# Altium schematic symbol library Modules.SchLib: 19 symbols
Pins are listed as number, name and electrical type; pins without a type are passive.

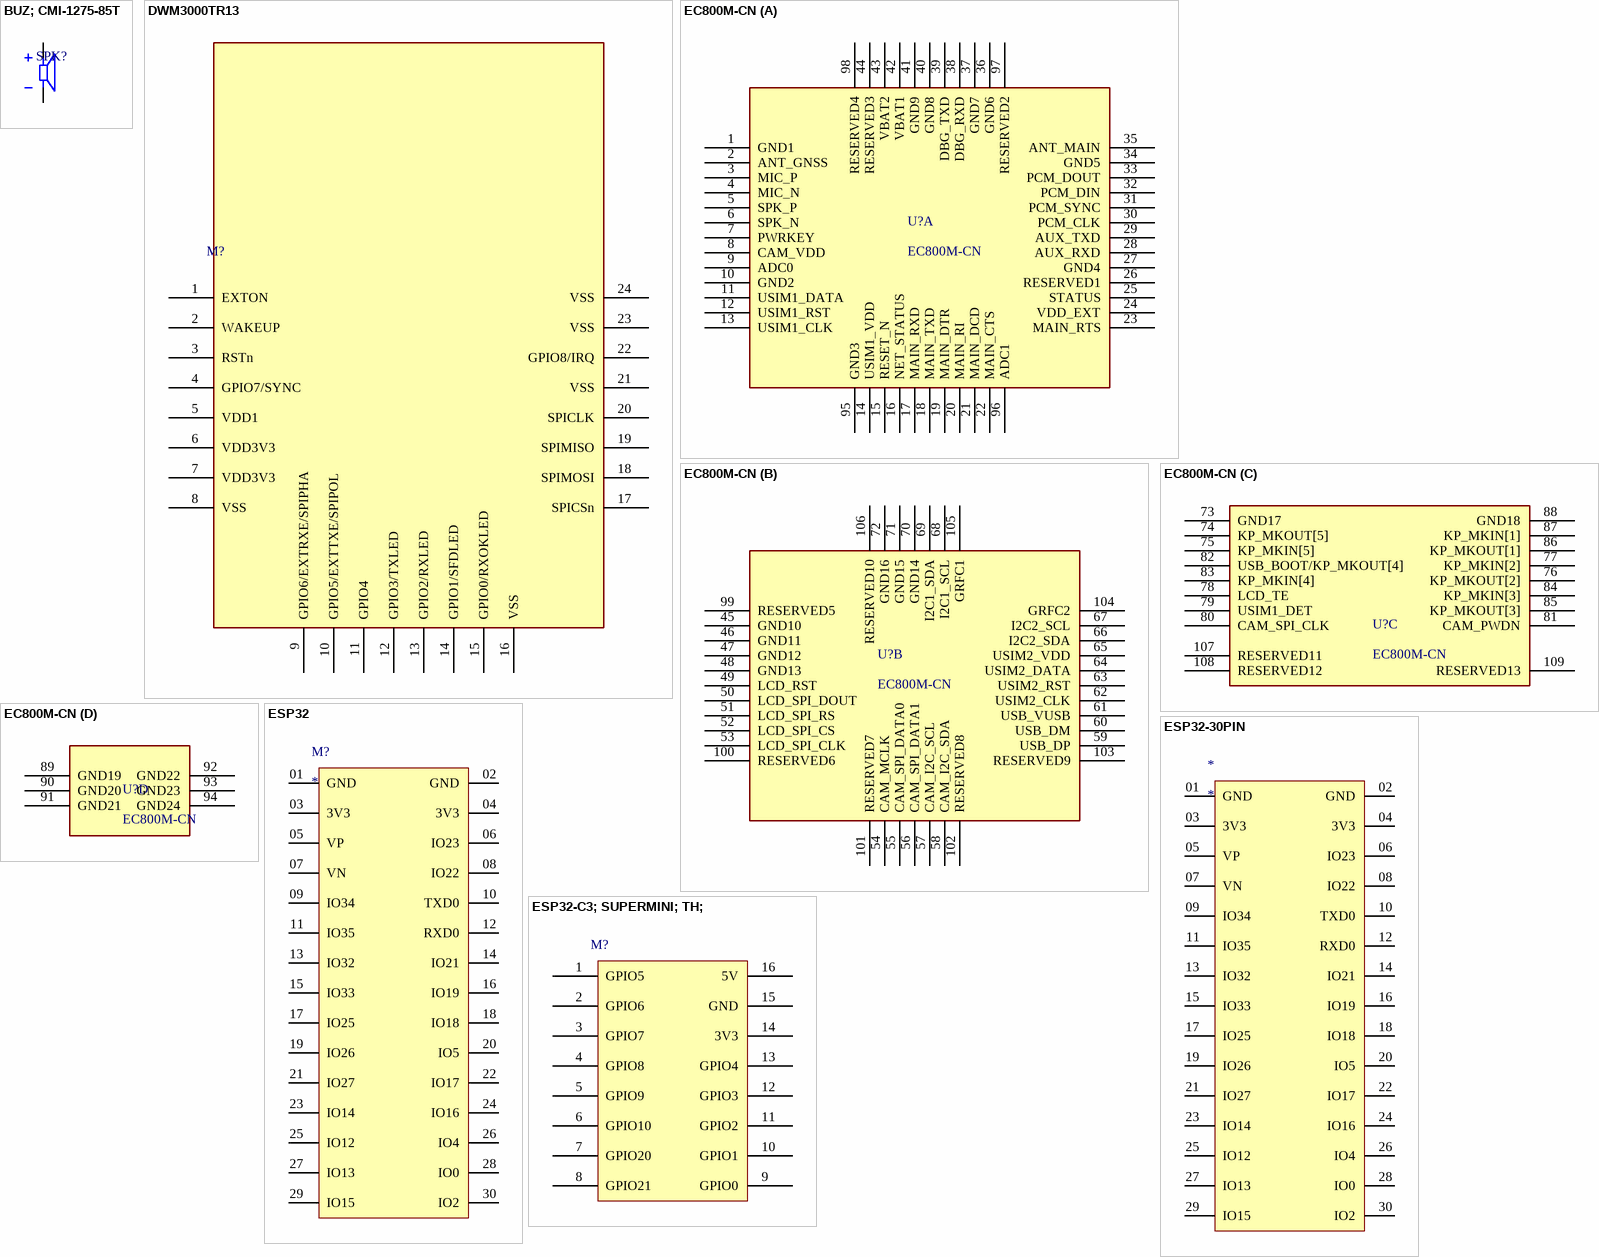
[diagram p0: symbols BUZ; CMI-1275-85T to ESP32-C3; SUPERMINI; TH;]

## BUZ; CMI-1275-85T
designator SPK?, comment Buzzers Indicator, Internally Driven Magnetic 5 V 30mA 3.1kHz 85dB @ 5V, 10cm Through Hole PC Pins  (value not drawn)
12 mm, 5 Vdc, 85 dB, Through Hole, Driving Circuit, Magnetic Audio Indicator Buzzer; Manufacturer: CUI Devices; Manufacturer Part Number: CMI-1275-85T; Shape: 4456Shape; Supplier: Mouser; Supplier Part Number: 490-CMI-1275-85T; RoHS: No; Category: Buzzers; Stock: 1318; Pricing: 1=1.23, 10=1.03, 50=0.984, 100=0.835, 1000=0.742, 10000=0.723 (USD); Length: 12mm; Width: 12mm; Height: 7.5mm
footprint MODULLE-BUZZER
pins: N, P

## DWM3000TR13
designator M?, comment 802.15.4, Bluetooth, Cellular UWB, Zigbee® Transceiver Module 6.25GHz ~ 8.25GHz Integrated, Ceramic Patch Surface Mount  (value not drawn)
RF Modules UWB XCVR Module; Manufacturer: Qorvo; Manufacturer Part Number: DWM3000TR13; Interface: SPI; Bandwidth: 1.4976GHz; Data Rate: 6.8Mbps; Clock Frequency: 7.9872GHz; Max Supply Voltage: 3.6V; Min Supply Voltage: 1.62V; Number of GPIO: 9; Supplier: Mouser; Supplier Part Number: 772-DWM3000TR13; RoHS: No; Category: RF Receivers, Transceivers; Stock: 8278; Pricing: 1=23.62, 10=23.62, 50=20.19, 100=17.18, 1000=12.71, 10000=12.71 (USD); Min Operating Temperature: -30°C; Max Operating Temperature: 85°C; Height: 2.9mm
footprint MODULE-DWM3000SR
pins: 1 EXTON, 2 WAKEUP, 3 RSTn, 4 GPIO7/SYNC, 5 VDD1, 6 VDD3V3, 7 VDD3V3, 8 VSS, 9 GPIO6/EXTRXE/SPIPHA, 10 GPIO5/EXTTXE/SPIPOL, 11 GPIO4, 12 GPIO3/TXLED, 13 GPIO2/RXLED, 14 GPIO1/SFDLED, 15 GPIO0/RXOKLED, 16 VSS, 17 SPICSn, 18 SPIMOSI, 19 SPIMISO, 20 SPICLK, 21 VSS, 22 GPIO8/IRQ, 23 VSS, 24 VSS

## EC800M-CN
designator U?
IoT/ M2M-optimized / LTE Cat 1 Module; Manufacturer: Quectel; Supply Voltage Range: 3.4~4.3 V，typ. 3.8 V; Interface Type: TCP/ UDP/ PPP/ NTP/ NITZ/ FTP/ HTTP/ PING/ CMUX*/ HTTPS/ FTPS/ SSL/ FILE/ MQTT/ MMS*/ SMTP*/; Manufacture Part Number: EC800M-CN; Link: https://www.quectel.com.cn/product/ec800m-cn; Package: LCC
footprint MODULE-ECM800-CN
part A pins: 1 GND1, 2 ANT_GNSS, 3 MIC_P, 4 MIC_N, 5 SPK_P, 6 SPK_N, 7 PWRKEY, 8 CAM_VDD, 9 ADC0, 10 GND2, 11 USIM1_DATA, 12 USIM1_RST, 13 USIM1_CLK, 14 USIM1_VDD, 15 RESET_N, 16 NET_STATUS, 17 MAIN_RXD, 18 MAIN_TXD, 19 MAIN_DTR, 20 MAIN_RI, 21 MAIN_DCD, 22 MAIN_CTS, 23 MAIN_RTS, 24 VDD_EXT, 25 STATUS, 26 RESERVED1, 27 GND4, 28 AUX_RXD, 29 AUX_TXD, 30 PCM_CLK, 31 PCM_SYNC, 32 PCM_DIN, 33 PCM_DOUT, 34 GND5, 35 ANT_MAIN, 36 GND6, 37 GND7, 38 DBG_RXD, 39 DBG_TXD, 40 GND8, 41 GND9, 42 VBAT1, 43 VBAT2, 44 RESERVED3, 95 GND3, 96 ADC1, 97 RESERVED2, 98 RESERVED4
part B pins: 45 GND10, 46 GND11, 47 GND12, 48 GND13, 49 LCD_RST, 50 LCD_SPI_DOUT, 51 LCD_SPI_RS, 52 LCD_SPI_CS, 53 LCD_SPI_CLK, 54 CAM_MCLK, 55 CAM_SPI_DATA0, 56 CAM_SPI_DATA1, 57 CAM_I2C_SCL, 58 CAM_I2C_SDA, 59 USB_DP, 60 USB_DM, 61 USB_VUSB, 62 USIM2_CLK, 63 USIM2_RST, 64 USIM2_DATA, 65 USIM2_VDD, 66 I2C2_SDA, 67 I2C2_SCL, 68 I2C1_SCL, 69 I2C1_SDA, 70 GND14, 71 GND15, 72 GND16, 99 RESERVED5, 100 RESERVED6, 101 RESERVED7, 102 RESERVED8, 103 RESERVED9, 104 GRFC2, 105 GRFC1, 106 RESERVED10
part C pins: 73 GND17, 74 KP_MKOUT[5], 75 KP_MKIN[5], 76 KP_MKOUT[2], 77 KP_MKIN[2], 78 LCD_TE, 79 USIM1_DET, 80 CAM_SPI_CLK, 81 CAM_PWDN, 82 USB_BOOT/KP_MKOUT[4], 83 KP_MKIN[4], 84 KP_MKIN[3], 85 KP_MKOUT[3], 86 KP_MKOUT[1], 87 KP_MKIN[1], 88 GND18, 107 RESERVED11, 108 RESERVED12, 109 RESERVED13
part D pins: 89 GND19, 90 GND20, 91 GND21, 92 GND22, 93 GND23, 94 GND24

## ESP32
designator M?
footprint MODULE-ESP
pins: 01 GND, 02 GND, 03 3V3, 04 3V3, 05 VP, 06 IO23, 07 VN, 08 IO22, 09 IO34, 10 TXD0, 11 IO35, 12 RXD0, 13 IO32, 14 IO21, 15 IO33, 16 IO19, 17 IO25, 18 IO18, 19 IO26, 20 IO5, 21 IO27, 22 IO17, 23 IO14, 24 IO16, 25 IO12, 26 IO4, 27 IO13, 28 IO0, 29 IO15, 30 IO2

## ESP32-30PIN
designator *
footprint MODULE-ESP32-30PIN
pins: 01 GND, 02 GND, 03 3V3, 04 3V3, 05 VP, 06 IO23, 07 VN, 08 IO22, 09 IO34, 10 TXD0, 11 IO35, 12 RXD0, 13 IO32, 14 IO21, 15 IO33, 16 IO19, 17 IO25, 18 IO18, 19 IO26, 20 IO5, 21 IO27, 22 IO17, 23 IO14, 24 IO16, 25 IO12, 26 IO4, 27 IO13, 28 IO0, 29 IO15, 30 IO2

## ESP32-C3; SUPERMINI; TH;
designator M?  (value not drawn)
Super tiny ESP32-C3 board; MF: Espressif Systems; MP: ESP32-C3 SuperMini_TH; SnapEDA_Link: https://www.snapeda.com/parts/ESP32-C3%20SuperMini_TH/Espressif+Systems/view-part/?ref=snap; Package: Package; Value: *; Check_prices: https://www.snapeda.com/parts/ESP32-C3%20SuperMini_TH/Espressif+Systems/view-part/?ref=eda
footprint MODULE-ESP32-C3-SUPERMINI (Footprint not found)
pins: 1 GPIO5, 2 GPIO6, 3 GPIO7, 4 GPIO8, 5 GPIO9, 6 GPIO10, 7 GPIO20, 8 GPIO21, 9 GPIO0, 10 GPIO1, 11 GPIO2, 12 GPIO3, 13 GPIO4, 14 3V3, 15 GND, 16 5V

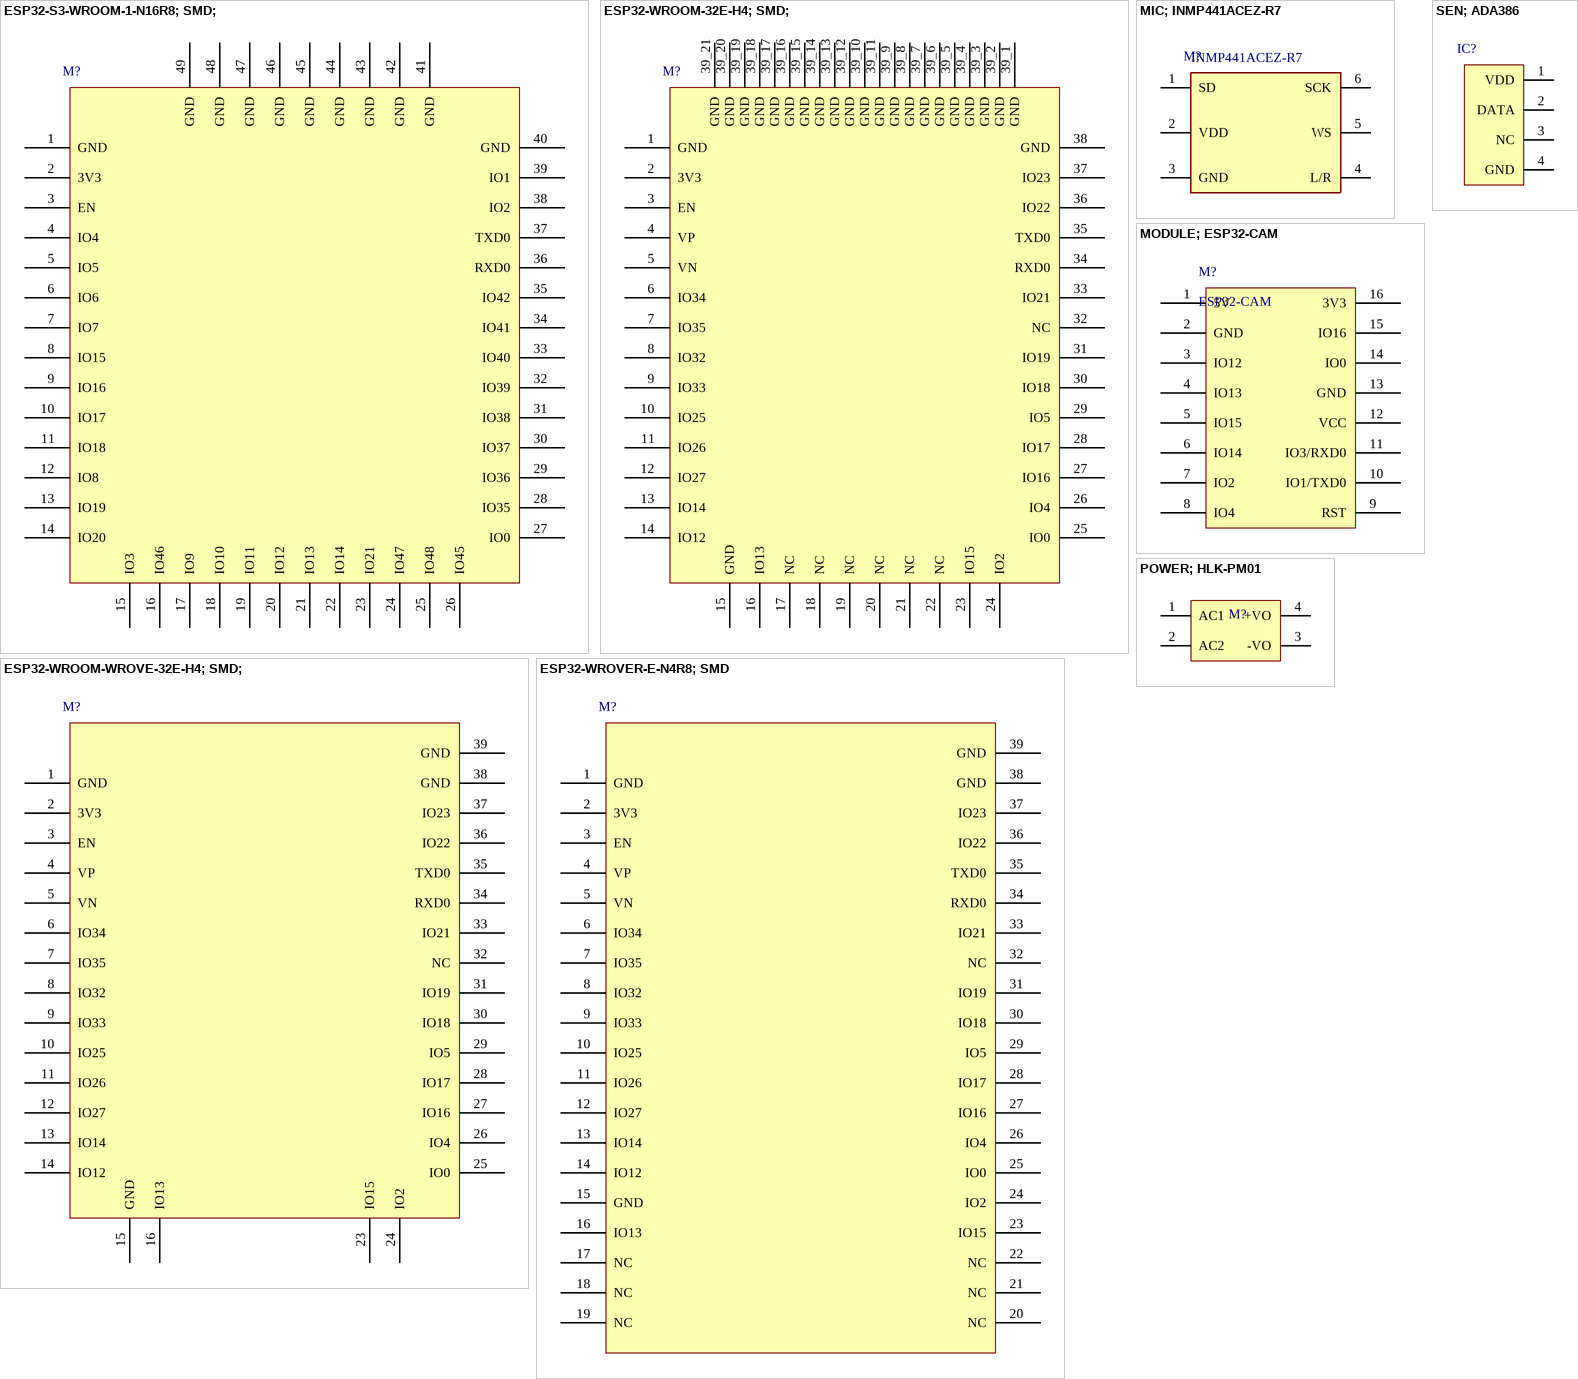
[diagram p1: symbols ESP32-S3-WROOM-1-N16R8; SMD; to SEN; ADA386]

## ESP32-S3-WROOM-1-N16R8; SMD;
designator M?, comment Bluetooth, WiFi 802.11b/g/n, Bluetooth v4.2 +EDR Transceiver Module 2.4GHz ~ 2.5GHz PCB Trace Surface Mount  (value not drawn)
SMD mod, ESP32-S3R8 with 3.3V, 8MB Octal PSRAM die insid, 6MBQuad SPI flash, pcb ant; Manufacturer: Espressif Systems; Manufacturer Part Number: ESP32-S3-WROOM-1-N16R8; Designer: TVBac; Supplier: Digikey; Supplier Part Number: 1965-ESP32-S3-WROOM-1-N16R8CT-ND; RoHS: No; Category: LDO; Stock: 8003; Pricing: 1=3.9 (USD); ComponentLink1Description: Link Digikey; ComponentLink1URL: https://www.digikey.com/en/products/detail/espressif-systems/ESP32-S3-WROOM-1-N16R8/16162642
footprint MODULE-ESP32-S3-WROOM-1-N16R8
pins: 1 GND, 2 3V3, 3 EN, 4 IO4, 5 IO5, 6 IO6, 7 IO7, 8 IO15, 9 IO16, 10 IO17, 11 IO18, 12 IO8, 13 IO19, 14 IO20, 15 IO3, 16 IO46, 17 IO9, 18 IO10, 19 IO11, 20 IO12, 21 IO13, 22 IO14, 23 IO21, 24 IO47, 25 IO48, 26 IO45, 27 IO0, 28 IO35, 29 IO36, 30 IO37, 31 IO38, 32 IO39, 33 IO40, 34 IO41, 35 IO42, 36 RXD0, 37 TXD0, 38 IO2, 39 IO1, 40 GND, 41 GND, 42 GND, 43 GND, 44 GND, 45 GND, 46 GND, 47 GND, 48 GND, 49 GND

## ESP32-WROOM-32E-H4; SMD;
designator M?, comment Bluetooth, WiFi 802.11b/g/n, Bluetooth v4.2 +EDR, Class 1, 2 and 3 Transceiver Module 2.4GHz ~ 2.5GHz Integrated, Trace Surface Mount  (value not drawn)
Rf Txrx Module Bt Trace Ant SMD; Manufacturer: Espressif Systems; Manufacturer Part Number: ESP32-WROOM-32E-H4; Designer: TVBac; Supplier: Digikey; Supplier Part Number: 1965-ESP32-WROOM-32E-H4CT-ND; RoHS: No; Category: LDO; Stock: 7552; Pricing: 1=2.68 (USD); ComponentLink1Description: Link Datasheet; ComponentLink1URL: https://www.espressif.com/sites/default/files/documentation/esp32-wroom-32e_esp32-wroom-32ue_datasheet_en.pdf; ComponentLink2Description: Link Digikey; ComponentLink2URL: https://www.digikey.com/en/products/detail/espressif-systems/ESP32-WROOM-32E-H4/12696413
footprint MODULE-ESP32-WROOM-32D
pins: 1 GND, 2 3V3, 3 EN, 4 VP, 5 VN, 6 IO34, 7 IO35, 8 IO32, 9 IO33, 10 IO25, 11 IO26, 12 IO27, 13 IO14, 14 IO12, 15 GND, 16 IO13, 17 NC, 18 NC, 19 NC, 20 NC, 21 NC, 22 NC, 23 IO15, 24 IO2, 25 IO0, 26 IO4, 27 IO16, 28 IO17, 29 IO5, 30 IO18, 31 IO19, 32 NC, 33 IO21, 34 RXD0, 35 TXD0, 36 IO22, 37 IO23, 38 GND, 39_1 GND, 39_2 GND, 39_3 GND, 39_4 GND, 39_5 GND, 39_6 GND, 39_7 GND, 39_8 GND, 39_9 GND, 39_10 GND, 39_11 GND, 39_12 GND, 39_13 GND, 39_14 GND, 39_15 GND, 39_16 GND, 39_17 GND, 39_18 GND, 39_19 GND, 39_20 GND, 39_21 GND

## ESP32-WROOM-WROVE-32E-H4; SMD;
designator M?, comment Bluetooth, WiFi 802.11b/g/n, Bluetooth v4.2 +EDR, Class 1, 2 and 3 Transceiver Module 2.4GHz ~ 2.5GHz Integrated, Trace Surface Mount  (value not drawn)
Rf Txrx Module Bt Trace Ant SMD; Manufacturer: Espressif Systems; Manufacturer Part Number: ESP32-WROOM-32E-H4; Designer: TVBac; Supplier: Digikey; Supplier Part Number: 1965-ESP32-WROOM-32E-H4CT-ND; RoHS: No; Category: LDO; Stock: 7552; Pricing: 1=2.68 (USD); ComponentLink1Description: Link Datasheet; ComponentLink1URL: https://www.espressif.com/sites/default/files/documentation/esp32-wroom-32e_esp32-wroom-32ue_datasheet_en.pdf; ComponentLink2Description: Link Digikey; ComponentLink2URL: https://www.digikey.com/en/products/detail/espressif-systems/ESP32-WROOM-32E-H4/12696413
footprint MODULE-ESP32-WROVER - WROOM
pins: 1 GND, 2 3V3, 3 EN, 4 VP, 5 VN, 6 IO34, 7 IO35, 8 IO32, 9 IO33, 10 IO25, 11 IO26, 12 IO27, 13 IO14, 14 IO12, 15 GND, 16 IO13, 23 IO15, 24 IO2, 25 IO0, 26 IO4, 27 IO16, 28 IO17, 29 IO5, 30 IO18, 31 IO19, 32 NC, 33 IO21, 34 RXD0, 35 TXD0, 36 IO22, 37 IO23, 38 GND, 39 GND

## ESP32-WROVER-E-N4R8; SMD
designator M?, comment Bluetooth, WiFi 802.11b/g/n, Bluetooth v4.2 +EDR Transceiver Module 2.4GHz ~ 2.5GHz PCB Trace Surface Mount  (value not drawn)
SMD Module, ESP32-D0WD-V3, ESP32 Eco V3, 3.3 V, 8 mb Psram, 4 mb Spi Flash, Pcb; Manufacturer: Espressif Systems; Manufacturer Part Number: ESP32-WROVER-E-N4R8; Designer: TVBac; Supplier: Digikey; Supplier Part Number: 1965-ESP32-WROVER-E-N4R8CT-ND; RoHS: No; Category: LDO; Stock: 6127; Pricing: 1=2.8 (USD); ComponentLink1Description: Link Digikey; ComponentLink1URL: https://www.digikey.com/en/products/detail/espressif-systems/ESP32-WROVER-E-N4R8/11613129
footprint MODULE-ESP32-WROVER
pins: 1 GND, 2 3V3, 3 EN, 4 VP, 5 VN, 6 IO34, 7 IO35, 8 IO32, 9 IO33, 10 IO25, 11 IO26, 12 IO27, 13 IO14, 14 IO12, 15 GND, 16 IO13, 17 NC, 18 NC, 19 NC, 20 NC, 21 NC, 22 NC, 23 IO15, 24 IO2, 25 IO0, 26 IO4, 27 IO16, 28 IO17, 29 IO5, 30 IO18, 31 IO19, 32 NC, 33 IO21, 34 RXD0, 35 TXD0, 36 IO22, 37 IO23, 38 GND, 39 GND

## MIC; INMP441ACEZ-R7
designator M?, comment MP: INMP441ACEZ-R7  (hidden comment: 60 Hz ~ 15 kHz Digital, I2S Microphone MEMS (Silicon) 1.62 V ~ 3.63 V Omnidirectional (-26dB ±3dB @ 94dB SPL) Solder Pads)
60Hz ~ 15kHz Digital, IÂ²S Microphone MEMS (Silicon) 1.62V ~ 3.63V Omnidirectional (-26dB Â±3dB @ 94dB SPL) Solder Pads; MF: TDK InvenSense; Designer: TVBac; Package: QFN-24 InvenSense; SnapEDA_Link: https://www.snapeda.com/parts/INMP441ACEZ-R7/TDK%20InvenSense/view-part/76082/?ref=snap; Availability: Bad; Price: None; Value: *
footprint MODULE-IMNP441
pins: 1 SD, 2 VDD, 3 GND, 4 L/R, 5 WS, 6 SCK

## MODULE; ESP32-CAM
designator M?, comment ESP32-CAM
footprint MODULE-ESP32-CAM
pins: 1 5V, 2 GND, 3 IO12, 4 IO13, 5 IO15, 6 IO14, 7 IO2, 8 IO4, 9 RST, 10 IO1/TXD0, 11 IO3/RXD0, 12 VCC, 13 GND, 14 IO0, 15 IO16, 16 3V3

## POWER; HLK-PM01
designator M?, comment The HLK-PM01 is a small size low cost AC to DC converter which can take in 110V/220V AC at 50/60 Hz and give 5V 3W output. The module is can be used in designs which run on 5V and needs to be powered form the AC mains.  (value not drawn)
MF: Hi-link; Designer: TVBac; SnapEDA_Link: https://www.snapeda.com/parts/hlk-pm01/Hi-link/view-part/?ref=snap; Package: None; Value: *; MP: hlk-pm01; Check_prices: https://www.snapeda.com/parts/hlk-pm01/Hi-link/view-part/?ref=eda
footprint MODULE-HLK-PM01
pins: 1 AC1, 2 AC2, 3 -VO, 4 +VO

## SEN; ADA386
designator IC?  (value not drawn)
DHT11 basic temperature-humidity sensor + extras; MF: Adafruit Industries; MP: ADA386; Designer: TVBac; SnapEDA_Link: https://www.snapeda.com/parts/ADA386/Adafruit+Industries/view-part/?ref=snap; Package: None; Value: *; Check_prices: https://www.snapeda.com/parts/ADA386/Adafruit+Industries/view-part/?ref=eda; ComponentLink1Description: Link Snap; ComponentLink1URL: https://www.snapeda.com/parts/ADA386/Adafruit%20Industries/view-part/?welcome=home&ref=search&t=DHT11
footprint MODULE-SEN-DHT11
pins: 1 VDD, 2 DATA, 3 NC, 4 GND

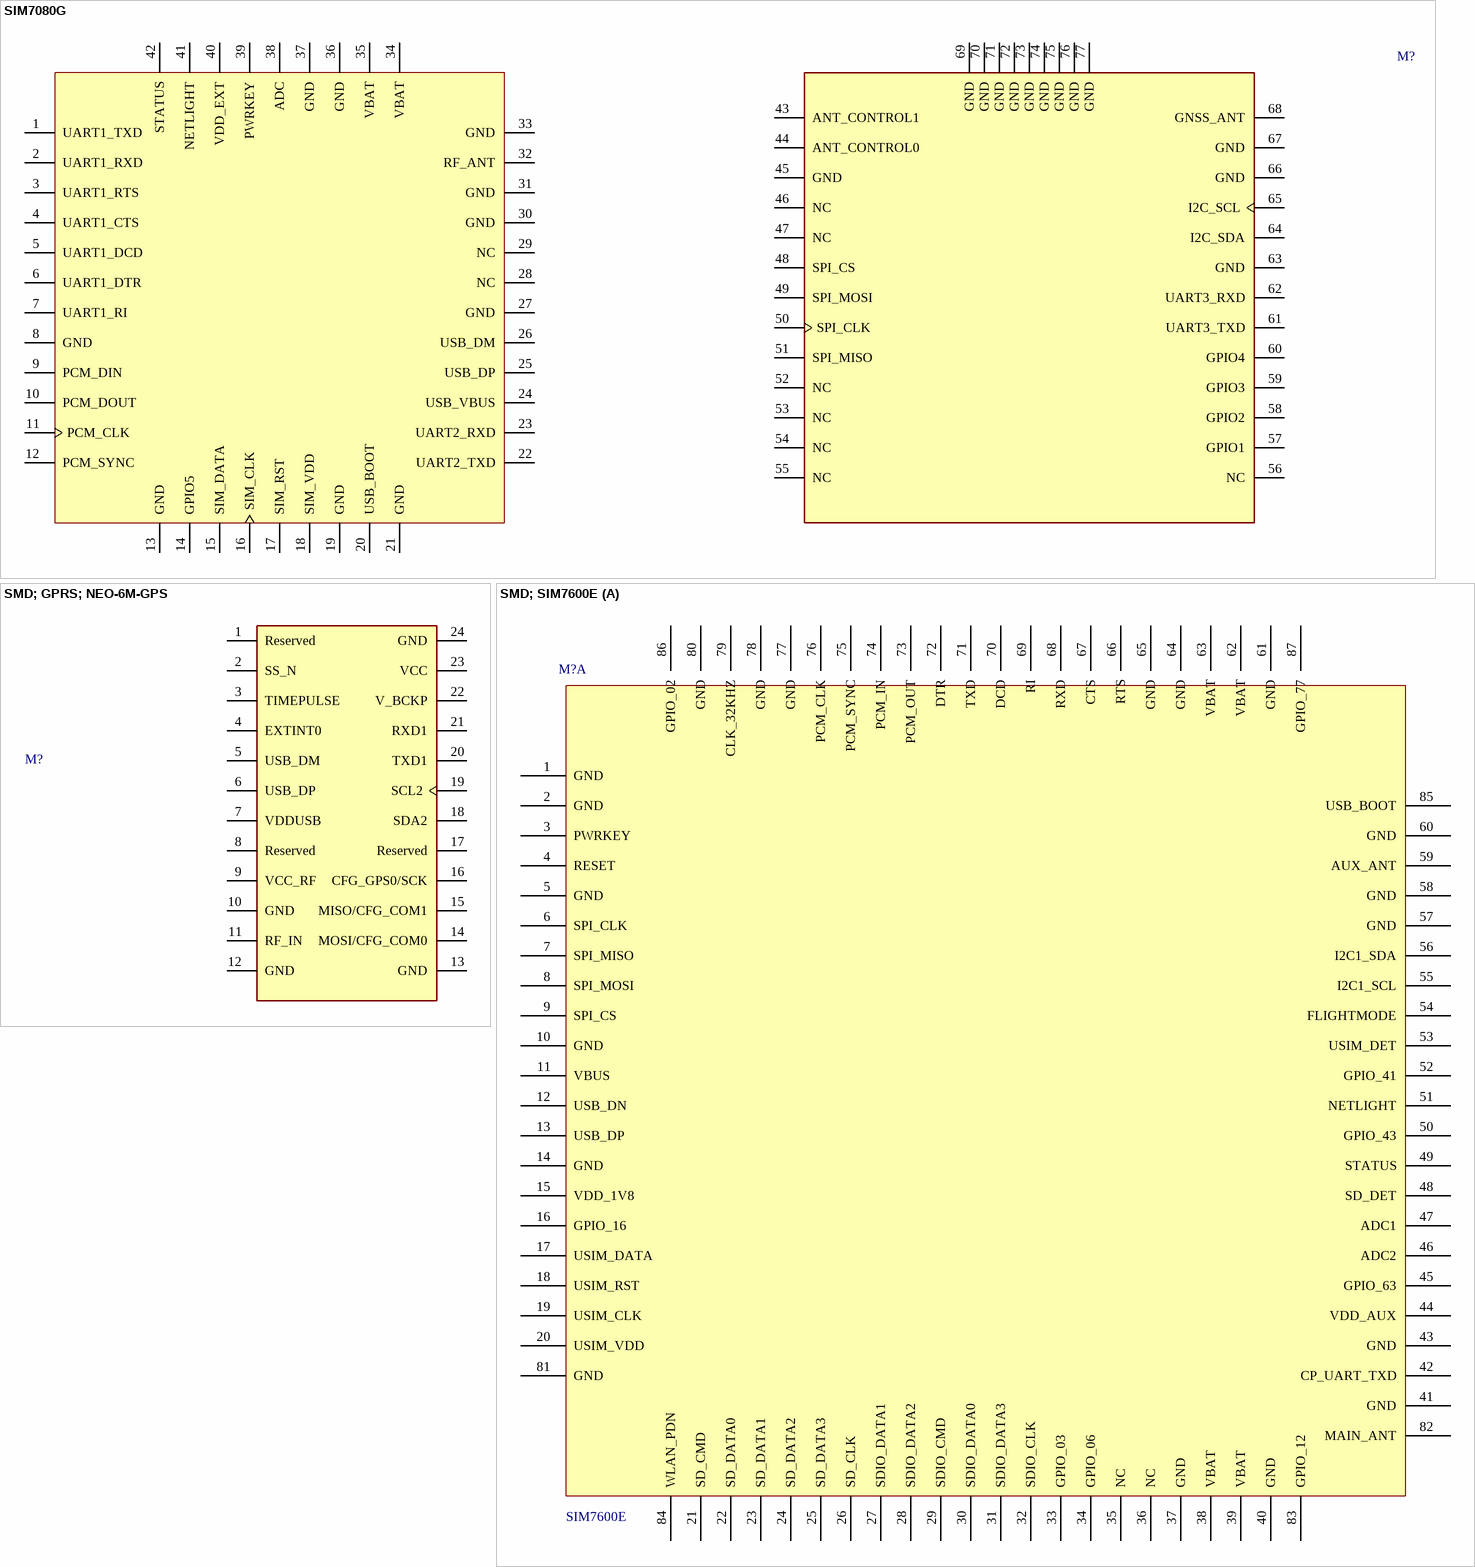
[diagram p2: symbols SIM7080G to SMD; SIM7600E]

## SIM7080G
designator M?, comment Cellular, Navigation Galileo, GLONASS, GPS, GNSS, LTE Transceiver Module 1.559GHz ~ 1.576GHz, 1.575GHz ~ 1.576GHz, 1.574GHz ~ 1.606GHz, 1.598GHz ~ 1.563GHz Antenna Not Included Surface Mount  (value not drawn)
CAT-M and NB-IoT Module 600MHz/700MHz/800MHz/850MHz/900MHz/1700MHz/1800MHz/1900MHz/2100MHz 2.7V to 4.8V LCC+LGA; Manufacturer: Simcom; Manufacturer Part Number: SIM7080G; Supplier: Digikey; Supplier Part Number: 3781-SIM7080G-ND; RoHS: No; Category: LDO; Stock: 964; Pricing: 1=22.62, 10=19.724, 25=18.7208, 100=17.3446, 250=16.52136, 500=15.94076 (USD)
footprint MODULE-SIM7080G
pins: 1 UART1_TXD, 2 UART1_RXD, 3 UART1_RTS, 4 UART1_CTS, 5 UART1_DCD, 6 UART1_DTR, 7 UART1_RI, 8 GND, 9 PCM_DIN, 10 PCM_DOUT, 11 PCM_CLK, 12 PCM_SYNC, 13 GND, 14 GPIO5, 15 SIM_DATA, 16 SIM_CLK, 17 SIM_RST, 18 SIM_VDD, 19 GND, 20 USB_BOOT, 21 GND, 22 UART2_TXD, 23 UART2_RXD, 24 USB_VBUS, 25 USB_DP, 26 USB_DM, 27 GND, 28 NC, 29 NC, 30 GND, 31 GND, 32 RF_ANT, 33 GND, 34 VBAT, 35 VBAT, 36 GND, 37 GND, 38 ADC, 39 PWRKEY, 40 VDD_EXT, 41 NETLIGHT, 42 STATUS, 43 ANT_CONTROL1, 44 ANT_CONTROL0, 45 GND, 46 NC, 47 NC, 48 SPI_CS, 49 SPI_MOSI, 50 SPI_CLK, 51 SPI_MISO, 52 NC, 53 NC, 54 NC, 55 NC, 56 NC, 57 GPIO1, 58 GPIO2, 59 GPIO3, 60 GPIO4, 61 UART3_TXD, 62 UART3_RXD, 63 GND, 64 I2C_SDA, 65 I2C_SCL, 66 GND, 67 GND, 68 GNSS_ANT, 69 GND, 70 GND, 71 GND, 72 GND, 73 GND, 74 GND, 75 GND, 76 GND, 77 GND

## SMD; GPRS; NEO-6M-GPS
designator M?, comment GPS Development Tools SparkFun GNSS-RTK Dead Reckoning Breakout - ZED-F9K (Qwiic)  (value not drawn)
MF: u-blox; MP: NEO-6M-GPS; Designer: TVBac; SnapEDA_Link: https://www.snapeda.com/parts/NEO-6M-GPS/u-blox/view-part/?ref=snap; Package: None; Value: *; Check_prices: https://www.snapeda.com/parts/NEO-6M-GPS/u-blox/view-part/?ref=eda; ComponentLink1Description: Link Datasheet; ComponentLink1URL: https://content.u-blox.com/sites/default/files/products/documents/NEO-6_DataSheet_%28GPS.G6-HW-09005%29.pdf
footprint MODULE-NEO-6M-GPS-SMD
pins: 1 Reserved, 2 SS_N, 3 TIMEPULSE, 4 EXTINT0, 5 USB_DM, 6 USB_DP, 7 VDDUSB, 8 Reserved, 9 VCC_RF, 10 GND, 11 RF_IN, 12 GND, 13 GND, 14 MOSI/CFG_COM0, 15 MISO/CFG_COM1, 16 CFG_GPS0/SCK, 17 Reserved, 18 SDA2, 19 SCL2, 20 TXD1, 21 RXD1, 22 V_BCKP, 23 VCC, 24 GND

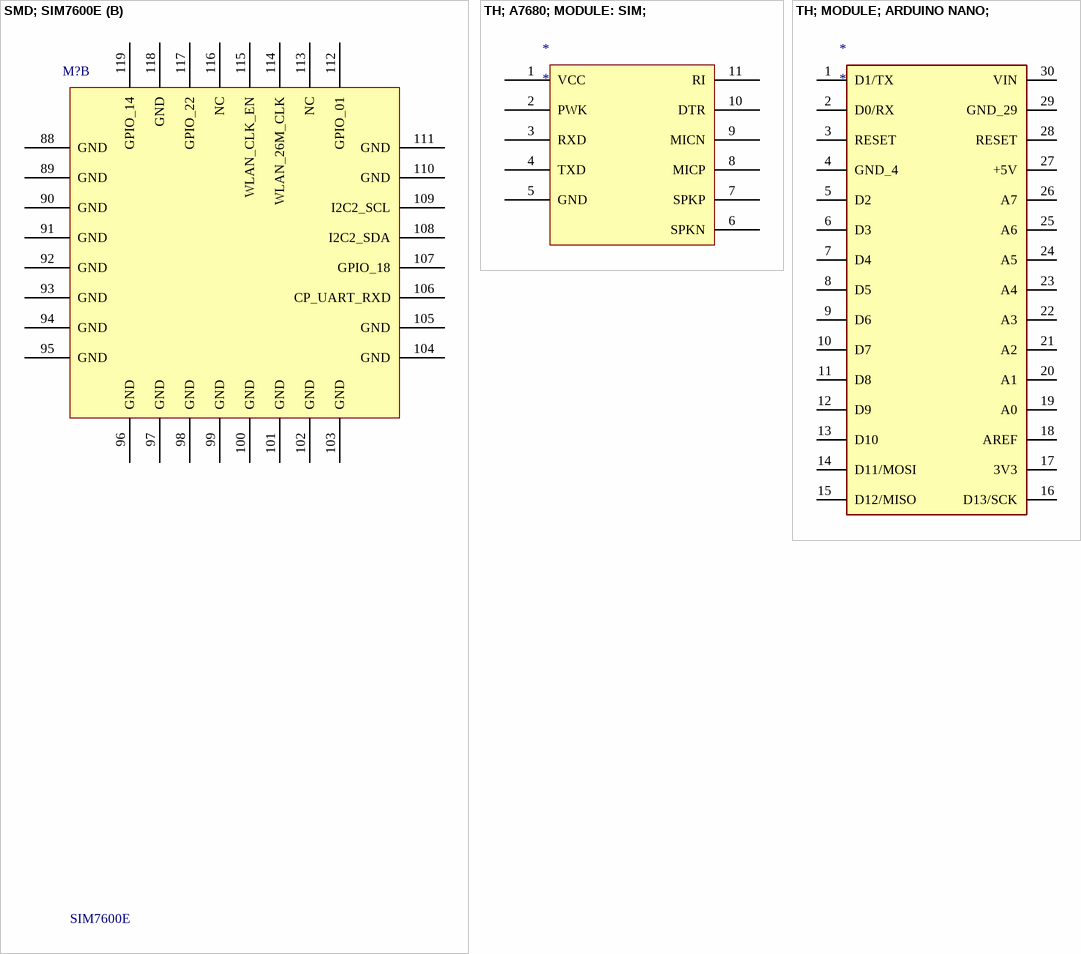
[diagram p3: symbols SMD; SIM7600E to TH; MODULE; ARDUINO NANO;]

## SMD; SIM7600E
designator M?, comment Manufacturer Part Number: SIM7600E  (hidden comment: Cellular GSM, LTE, WCDMA Transceiver Module 900MHz, 1.8GHz Antenna Not Included Surface Mount)
Lte-fdd/lte-tdd/hspa+/umts/edge/gprs/gsm Module 900MHZ/1800MHZ 3.8V 87-PIN Lcc Tray; Manufacturer: Simcom; Designer: TVBac; Supplier: DigiKey; Supplier Part Number: 3781-SIM7600E-ND; RoHS: No; Stock: 300; Pricing: 1=42.98, 10=40.072, 25=37.168, 80=34.845, 300=32.522 (USD)
footprint MODULE-SIM7600C
part A pins: 1 GND, 2 GND, 3 PWRKEY, 4 RESET, 5 GND, 6 SPI_CLK, 7 SPI_MISO, 8 SPI_MOSI, 9 SPI_CS, 10 GND, 11 VBUS, 12 USB_DN, 13 USB_DP, 14 GND, 15 VDD_1V8, 16 GPIO_16, 17 USIM_DATA, 18 USIM_RST, 19 USIM_CLK, 20 USIM_VDD, 21 SD_CMD, 22 SD_DATA0, 23 SD_DATA1, 24 SD_DATA2, 25 SD_DATA3, 26 SD_CLK, 27 SDIO_DATA1, 28 SDIO_DATA2, 29 SDIO_CMD, 30 SDIO_DATA0, 31 SDIO_DATA3, 32 SDIO_CLK, 33 GPIO_03, 34 GPIO_06, 35 NC, 36 NC, 37 GND, 38 VBAT, 39 VBAT, 40 GND, 41 GND, 42 CP_UART_TXD, 43 GND, 44 VDD_AUX, 45 GPIO_63, 46 ADC2, 47 ADC1, 48 SD_DET, 49 STATUS, 50 GPIO_43, 51 NETLIGHT, 52 GPIO_41, 53 USIM_DET, 54 FLIGHTMODE, 55 I2C1_SCL, 56 I2C1_SDA, 57 GND, 58 GND, 59 AUX_ANT, 60 GND, 61 GND, 62 VBAT, 63 VBAT, 64 GND, 65 GND, 66 RTS, 67 CTS, 68 RXD, 69 RI, 70 DCD, 71 TXD, 72 DTR, 73 PCM_OUT, 74 PCM_IN, 75 PCM_SYNC, 76 PCM_CLK, 77 GND, 78 GND, 79 CLK_32KHZ, 80 GND, 81 GND, 82 MAIN_ANT, 83 GPIO_12, 84 WLAN_PDN, 85 USB_BOOT, 86 GPIO_02, 87 GPIO_77
part B pins: 88 GND, 89 GND, 90 GND, 91 GND, 92 GND, 93 GND, 94 GND, 95 GND, 96 GND, 97 GND, 98 GND, 99 GND, 100 GND, 101 GND, 102 GND, 103 GND, 104 GND, 105 GND, 106 CP_UART_RXD, 107 GPIO_18, 108 I2C2_SDA, 109 I2C2_SCL, 110 GND, 111 GND, 112 GPIO_01, 113 NC, 114 WLAN_26M_CLK, 115 WLAN_CLK_EN, 116 NC, 117 GPIO_22, 118 GND, 119 GPIO_14

## TH; A7680; MODULE: SIM;
designator *
footprint MODULE-SIM-A7680
pins: 1 VCC, 2 PWK, 3 RXD, 4 TXD, 5 GND, 6 SPKN, 7 SPKP, 8 MICP, 9 MICN, 10 DTR, 11 RI

## TH; MODULE; ARDUINO NANO;
designator *
footprint MODULE-ARDUINO-NANO
pins: 1 D1/TX, 2 D0/RX, 3 RESET, 4 GND_4, 5 D2, 6 D3, 7 D4, 8 D5, 9 D6, 10 D7, 11 D8, 12 D9, 13 D10, 14 D11/MOSI, 15 D12/MISO, 16 D13/SCK, 17 3V3, 18 AREF, 19 A0, 20 A1, 21 A2, 22 A3, 23 A4, 24 A5, 25 A6, 26 A7, 27 +5V, 28 RESET, 29 GND_29, 30 VIN